# EAGLE library part NCS36000 (library NCS36000)
NCS36000
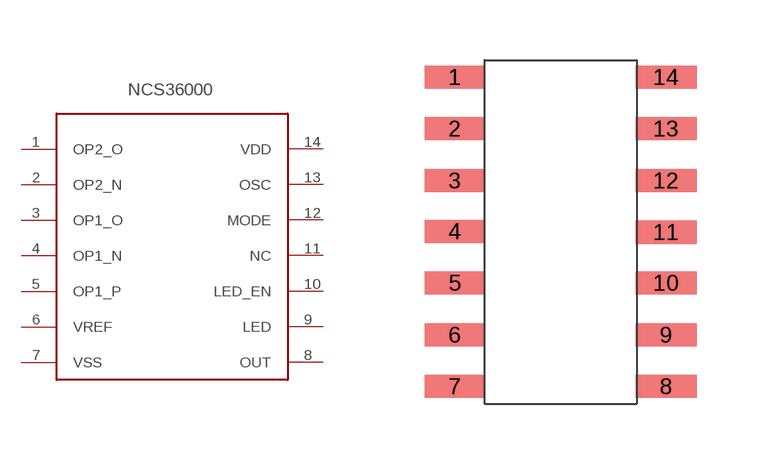
[diagram p0: symbol with the pads of SOIC−14; footprint SOIC−14]

Designator prefix -

## NCS36000  [SOIC−14]
1  OP2_O
2  OP2_N
3  OP1_O
4  OP1_N
5  OP1_P
6  VREF
7  VSS
8  OUT
9  LED
10  LED_EN
11  NC
12  MODE
13  OSC
14  VDD

## Footprint SOIC−14 (pad centres in mm)
NCS36000
smd 1.52 x 0.58: 1 -0.74,8.17; 2 -0.74,6.88; 3 -0.74,5.58; 4 -0.74,4.31; 5 -0.74,3.02; 6 -0.74,1.72; 7 -0.74,0.43; 8 4.54,0.43; 9 4.54,1.72; 10 4.54,3.02; 11 4.54,4.29; 12 4.54,5.58; 13 4.54,6.88; 14 4.54,8.17